# EAGLE library part AD5160?* (library AD5160)
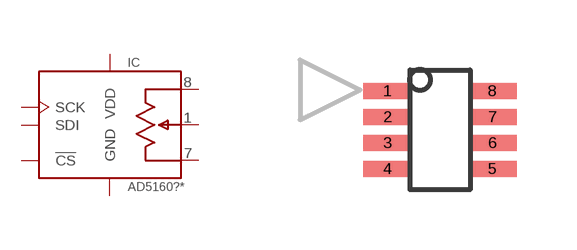
[diagram p0: symbol with the pads of SOT23-8; footprint SOT23-8]

Designator prefix IC

## AD5160BRJZ10 (MARK: D09; MF: Analog; MPN: AD5160BRZJ10-R2), AD5160BRJZ100 (MARK: D0B; MF: Analog; MPN: AD5160BRZJ100-R2), AD5160BRJZ5 (MARK: D6Q; MF: Analog; MPN: AD5160BRZJ5-R2), AD5160BRJZ50 (MARK: D8J; MF: Analog; MPN: AD5160BRZJ50-R2)  [SOT23-8]
1  W  pas
2  VDD  pwr
3  GND  pwr
4  SCK  in
5  SDI  in
6  !CS  in
7  B  pas
8  A  pas

## Footprint SOT23-8 (pad centres in mm)
smd 1.22 x 0.4: 1 -1.31,0.975; 2 -1.31,0.325; 3 -1.31,-0.325; 4 -1.31,-0.975; 5 1.31,-0.975; 6 1.31,-0.325; 7 1.31,0.325; 8 1.31,0.975